# Altium schematic symbol library WL-TTRB.SchLib: 2 symbols
Pins are listed as number, name and electrical type; pins without a type are passive.

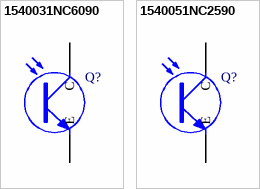
[diagram p0: symbols 1540031NC6090 to 1540051NC2590]

## 1540031NC6090
designator Q?  (value not drawn)
WL-TTRB THT Phototransistor Round Black, D3H5.3mm, 700-1100nm, 0.5mA, 60°; Manufacturer: Wurth Elektronik; Chip Technology: Si; Collector Current Min: 7mA; Collector-Emitter Dark Current: 300nA; Polarity: NPN Phototransistor; Range of Spectral Bandwidth Min: 700nm; Range of Spectral Bandwidth Max: 1100nm; Wavelength of Peak Sensitivity: 940nm; ComponentLink1Description: Website Link; ComponentLink1URL: https://www.we-online.com/redexpert/article/1540031NC6090?ad; ComponentLink2Description: Datasheet Link; ComponentLink2URL: https://www.we-online.com/redexpert/spec/1540031NC6090?ad; Manufacturer Part Number: 1540031NC6090; Category: Phototransistors; Match Code: WL-TTRB; Mount: Through Hole; Operating Temperature Max: 85°C; Operating Temperature Min: -40°C; Packaging: Bulk; Height: 5.3mm; Diameter: 3mm; Collector Current: 0.5mA; Viewing Angle: 60°
footprint WL-TTRB_D3H5.3
pins: 1 C, 2 E

## 1540051NC2590
designator Q?  (value not drawn)
WL-TTRB THT Phototransistor Round Black, D5H8.7mm, 700-1100nm, 1.5mA, 25°; Manufacturer: Wurth Elektronik; Chip Technology: Si; Collector Current Min: 10mA; Collector-Emitter Dark Current: 100nA; Polarity: NPN Phototransistor; Range of Spectral Bandwidth Min: 700nm; Range of Spectral Bandwidth Max: 1100nm; Wavelength of Peak Sensitivity: 940nm; ComponentLink1Description: Website Link; ComponentLink1URL: https://www.we-online.com/redexpert/article/1540051NC2590?ad; ComponentLink2Description: Datasheet Link; ComponentLink2URL: https://www.we-online.com/redexpert/spec/1540051NC2590?ad; Manufacturer Part Number: 1540051NC2590; Category: Phototransistors; Match Code: WL-TTRB; Mount: Through Hole; Operating Temperature Max: 85°C; Operating Temperature Min: -40°C; Packaging: Bulk; Height: 8.7mm; Diameter: 5mm; Collector Current: 1.5mA; Viewing Angle: 25°
footprint WL-TTRB_D5H8.7
pins: 1 C, 2 E